# Altium footprint library Footprint.PcbLib: 9 footprints
Each footprint in its own frame and in the unit in brackets; x right, y up, seen from the top. Pads: shape width x height; smd on the part's side, far side on the other; paste and mask are expansions set on the pad; w line width, h text height; cw(c..) or ccw(c..) is an arc to the next point about the centre after c.
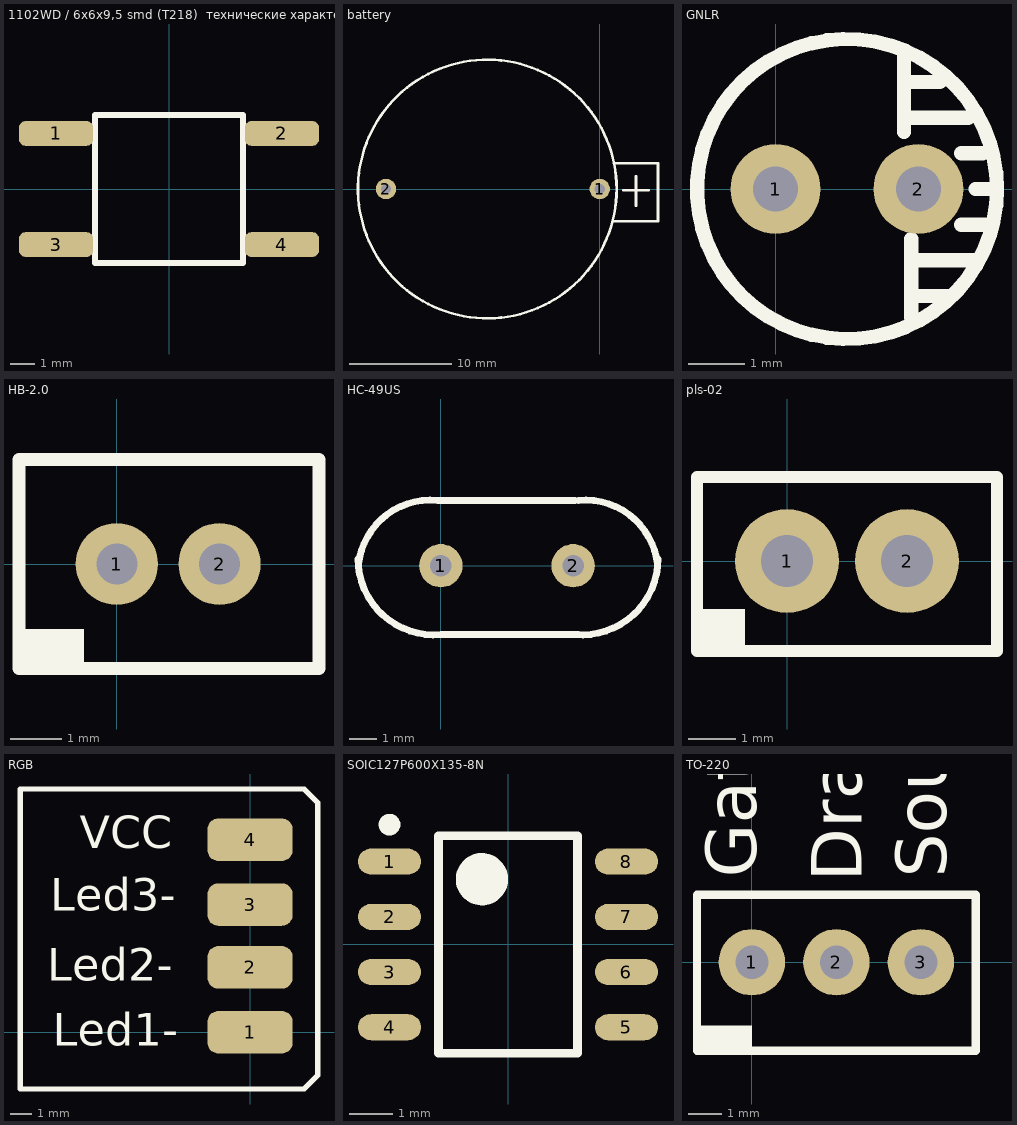
[diagram p0: the footprints below, top view; thin cyan lines are the x and y axes]

## 1102WD / 6x6x9,5 smd (T218)  технические характеристики скачать документацию (datasheet) по IT-1102WD / 6x6x9,5 smd [mm]
pads (4):
  rrect50% 3x1 smd: 1(-4.572,2.25) 2(4.572,2.25) 3(-4.572,-2.25) 4(4.572,-2.25)
Top Overlay:
  lines w0.254: -3,-3 0,-3 3,-3 3,0 3,3 0,3 -3,3 -3,0 -3,-3
3D body "button IT-1102.STEP": height 9.7, standoff 0.05, extent -4.953,-2.873 4.803,3.127

## battery [mm]
pads (2):
  round 2 hole 1: 1(0,0) 2(-21,0)
Top Overlay:
  circle w0.254: c-11.049,0 r12.7
  lines w0.254: 1.27,-3.175 5.715,-3.175 5.715,2.54 1.397,2.54 ; 2.286,-0.127 4.826,-0.127 ; 3.556,-1.651 3.556,1.27
3D body "Сборка батарейного отсека KLS5.STEP": height 8.11, standoff -2.88, extent -22,-11.5 3.5,11.5

## GNLR [mm]
pads (2):
  round 1.6 hole 0.8: 1(0,0) 2(2.54,0)
Top Overlay:
  circle w0.254: c1.27,0 r2.67
  lines w0.254: 2.286,1.016 2.286,2.413 ; 2.286,1.27 3.429,1.27 ; 2.286,1.905 2.921,1.905 ; 2.413,-2.286 2.413,-0.889 ; 2.413,-1.905 3.048,-1.905 ; 2.54,-1.27 3.556,-1.27 ; 3.302,-0.635 3.81,-0.635 ; 3.302,0.635 3.683,0.635 ; 3.556,0 3.94,0
3D body "gnl3014.STEP": height 8, standoff -2.5, extent -0.68,-1.95 3.22,1.95

## HB-2.0 [mm]
pads (2):
  round 1.6 hole 0.8: 1(0,0) 2(2,0)
Top Overlay:
  rectangle: -1.778,-1.905 -0.635,-1.27
  lines w0.254: -1.905,-2.032 -1.905,2.032 3.937,2.032 3.937,-2.032 -1.905,-2.032
3D body "РазъемWB-2.STEP": height 10.39, standoff -0.49, extent -2.032,-2 3.968,2

## HC-49US [mm]
pads (2):
  round 1.6 hole 0.8: 1(0,0) 2(4.88,0)
Top Overlay:
  lines w0.254: -3.06,0.254 ccw(c-0.254,0.254) 0,-2.54 5.08,-2.54 ; -3.048,0 cw(c-0.381,-0.254) -0.127,2.413 4.953,2.413 ; 4.953,-2.54 ccw(c5.207,0.254) 8.013,0.254 ; 5.08,2.413 cw(c5.334,-0.254) 8.001,0
3D body "резанатор HC-49U.STEP": height 14, standoff -3, extent -3.05,-2.5 7.95,2.5

## pls-02 [mm]
pads (2):
  round 2.2 hole 1.1: 1(0,0) 2(2.54,0)
Top Overlay:
  rectangle: -1.905,-1.905 -0.889,-1.016
  lines w0.254: -1.905,-1.905 -1.905,1.778 4.445,1.778 4.445,-1.905 -1.905,-1.905
3D body "PLS-02.STEP": height 9.5, standoff -2.5, extent -1.249,-1 3.751,1

## RGB [mm]
pads (4):
  rrect50% 4x2 smd: 1(0,0) 2(0,3.048) 3(0,6) 4(0,9.048)
Top Overlay:
  lines w0.254: -10.795,-2.667 -10.795,11.43 2.54,11.43 3.175,10.795 3.175,-1.905 3.175,-2.032 2.54,-2.667 -10.795,-2.667
  text "VCC" at -8.001,8.636 h1.52
  text "Led3-" at -9.398,5.715 h1.52
  text "Led2-" at -9.525,2.413 h1.52
  text "Led1-" at -9.271,-0.635 h1.52

## SOIC127P600X135-8N [mm] "SOIC, 8-Leads, Body 4,88x3,93mm, Pitch 1,27mm, IPC Medium Density"
height 1.35
pads (8):
  oval 1.45x0.6 smd: 1(-2.725,1.905) 2(-2.725,0.635) 3(-2.725,-0.635) 4(-2.725,-1.905) 5(2.725,-1.905) 6(2.725,-0.635) 7(2.725,0.635) 8(2.725,1.905)
Top Overlay:
  circle w0.25: c-2.725,2.755 r0.125
  circle w0.6: c-0.6,1.5 r0.3
  lines w0.2: -1.6,-2.5 -1.6,2.5 1.6,2.5 1.6,-2.5 -1.6,-2.5
3D body "SO-8.STEP": height 2.05, standoff 0.01, extent -3.063,-2.475 3.063,2.475

## TO-220 [mm]
pads (3):
  round 2 hole 1: 1(0,0) 2(2.54,0) 3(5.08,0)
Top Overlay:
  rectangle: -1.651,-2.54 0,-1.905
  lines w0.254: -1.651,-2.667 -1.651,2.032 1.397,2.032 6.731,2.032 6.731,-2.667 -1.651,-2.667
  text "Source" at 5.842,2.54 h1.52
  text "Drain" at 3.302,2.413 h1.52
  text "Gate" at 0.127,2.54 h1.52
3D body "ТО-220(наклон).STEP": height 5.5, standoff -3.16, extent -2.41,-0.381 7.49,23.352